# Altium schematic symbol library aiskylab-06IC-03Interface.SchLib: 21 symbols
Pins are listed as number, name and electrical type; pins without a type are passive.

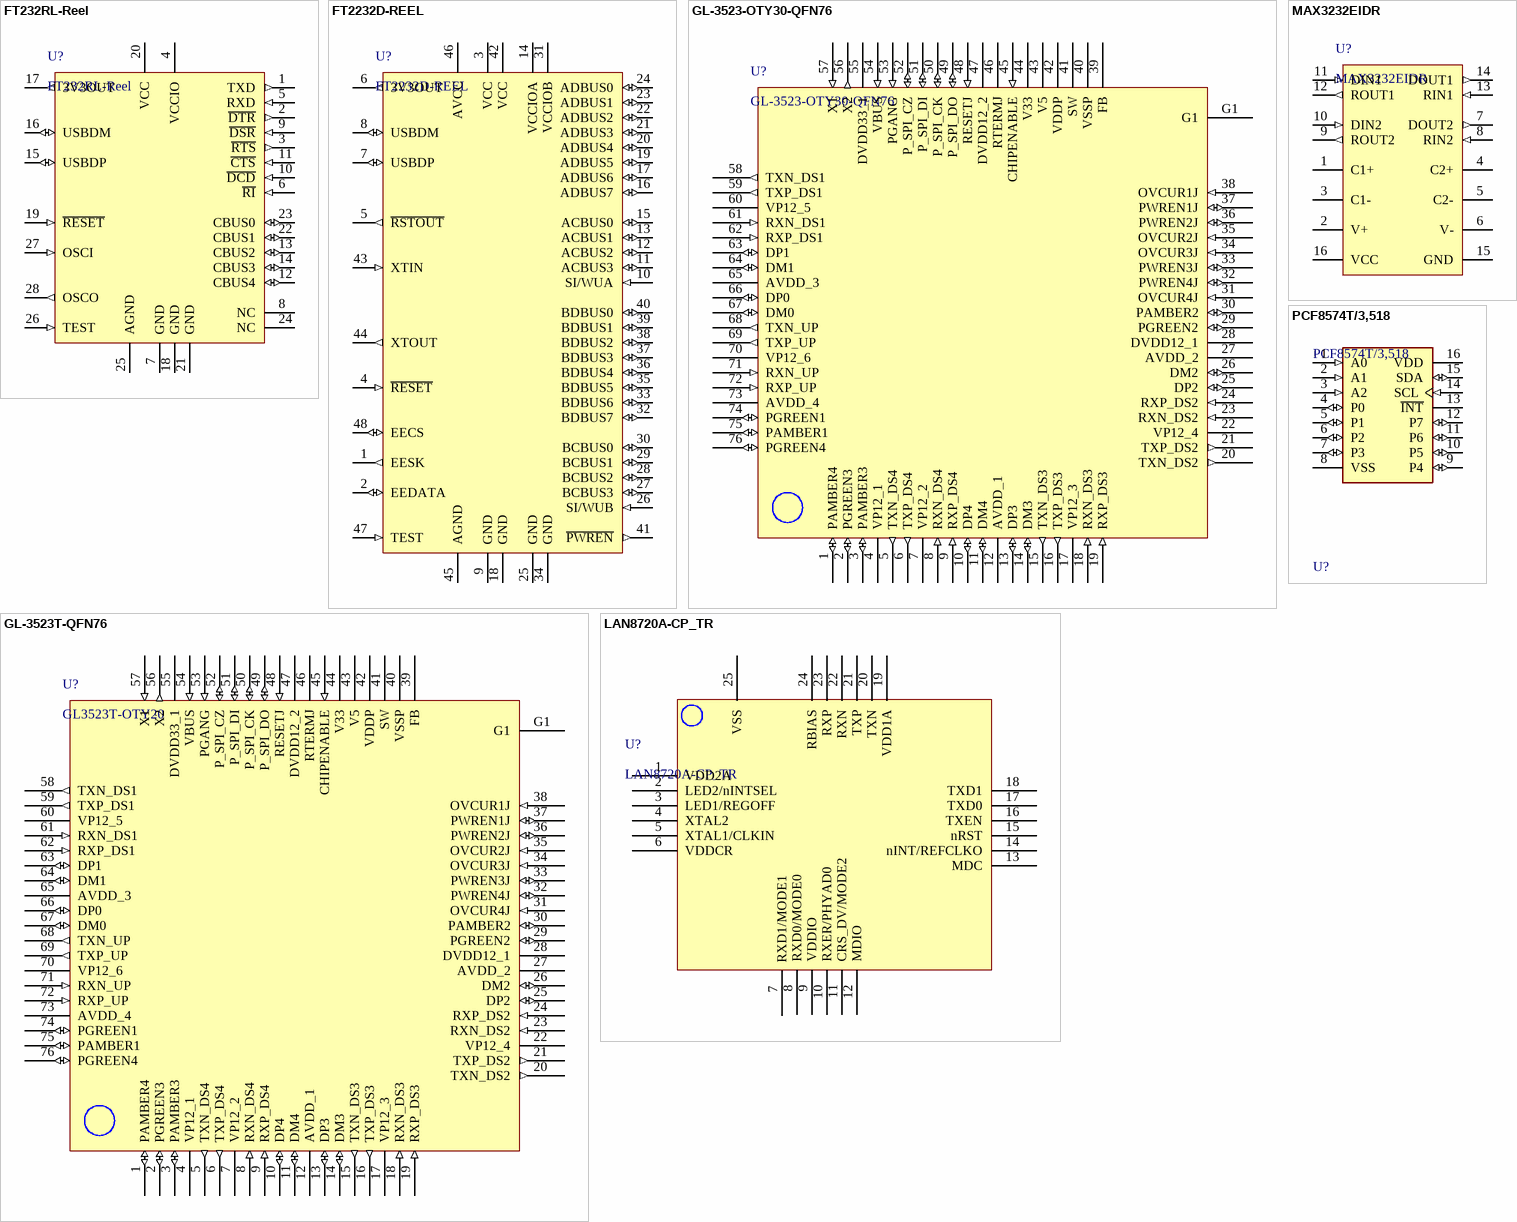
[diagram p0: symbols FT232RL-Reel to PCF8574T/3,518]

## FT232RL-Reel
designator U?
USB UART Asynchronous Serial Data Transfer Chip, 28-pin SSOP, Tape and Reel; Manufacturer: FTDI; PackageVersion: Mar-12; PackageReference: SSOP-28; ComponentLink2Description: Datasheet; DatasheetVersion: ver 2.10, Mar-2012; PackageDescription: 28-Pin Small Outline Package 0.65 mm Pitch; ComponentLink1Description: Manufacturer URL; RevisionNote: DatasheetVersion updated to 2.10 Mar-2012; PartNumber: FT232RL-Reel; ComponentLink1URL: http://www.ftdichip.com/; ComponentLink2URL: http://www.ftdichip.com/Support/Documents/DataSheets/ICs/DS_FT232R.pdf
footprint SSOP-28_L (SOP, 28-Leads, Body 10.2x5.3mm, Pitch 0.65mm, IPC High Density)
footprint SSOP-28_N (SOP, 28-Leads, Body 10.2x5.3mm, Pitch 0.65mm, IPC Medium Density)
footprint SSOP-28_M (SOP, 28-Leads, Body 10.2x5.3mm, Pitch 0.65mm, IPC Low Density)
pins: 1 TXD (out), 2 ~{DTR} (out), 3 ~{RTS} (out), 4 VCCIO (power), 5 RXD (in), 6 ~{RI} (in), 7 GND (power), 8 NC, 9 ~{DSR} (in), 10 ~{DCD} (in), 11 ~{CTS} (in), 12 CBUS4 (io), 13 CBUS2 (io), 14 CBUS3 (io), 15 USBDP (io), 16 USBDM (io), 17 3V3OUT (out), 18 GND (power), 19 ~{RESET} (in), 20 VCC (power), 21 GND (power), 22 CBUS1 (io), 23 CBUS0 (io), 24 NC, 25 AGND (power), 26 TEST (in), 27 OSCI (in), 28 OSCO (out)

## FT2232D-REEL
designator U?
FT2232D Dual USB to Serial UART/FIFO IC, -40 to +85 degC, 48-Pin LQFP, Pb-Free, Tape and Reel; Manufacturer: FTDI; ComponentLink1Description: Manufacturer URL; ComponentLink1URL: http://www.ftdichip.com/; PackageDescription: 48-Pin Thin Quad Flat Pack, 7 x 7 mm Body, 0.5 mm Pitch; PackageVersion: Apr-11; PartNumber: FT2232D-REEL; ComponentLink2URL: http://www.ftdichip.com/Support/Documents/DataSheets/ICs/DS_FT2232D.pdf; ComponentLink2Description: Datasheet; PackageReference: LQFP-48; DatasheetVersion: ver 2.05, Apr-2011
footprint LQFP-48_L (Thin QFP, 48-Leads, Body 7x7mm, Pitch 0.5mm, IPC High Density)
footprint LQFP-48_N (Thin QFP, 48-Leads, Body 7x7mm, Pitch 0.5mm, IPC Medium Density)
footprint LQFP-48_M (Thin QFP, 48-Leads, Body 7x7mm, Pitch 0.5mm, IPC Low Density)
pins: 1 EESK (out), 2 EEDATA (io), 3 VCC (power), 4 ~{RESET} (in), 5 ~{RSTOUT} (out), 6 3V3OUT (out), 7 USBDP (io), 8 USBDM (io), 9 GND (power), 10 SI/WUA (in), 11 ACBUS3 (io), 12 ACBUS2 (io), 13 ACBUS1 (io), 14 VCCIOA (power), 15 ACBUS0 (io), 16 ADBUS7 (io), 17 ADBUS6 (io), 18 GND (power), 19 ADBUS5 (io), 20 ADBUS4 (io), 21 ADBUS3 (io), 22 ADBUS2 (io), 23 ADBUS1 (io), 24 ADBUS0 (io), 25 GND (power), 26 SI/WUB (in), 27 BCBUS3 (io), 28 BCBUS2 (io), 29 BCBUS1 (io), 30 BCBUS0 (io), 31 VCCIOB (power), 32 BDBUS7 (io), 33 BDBUS6 (io), 34 GND (power), 35 BDBUS5 (io), 36 BDBUS4 (io), 37 BDBUS3 (io), 38 BDBUS2 (io), 39 BDBUS1 (io), 40 BDBUS0 (io), 41 ~{PWREN} (out), 42 VCC (power), 43 XTIN (in), 44 XTOUT (out), 45 AGND (power), 46 AVCC (power), 47 TEST (in), 48 EECS (io)

## GL-3523-OTY30-QFN76
designator U?
GL3523T-OTY30  Green Package
footprint QFN40P900X900X80_HS-77N (QFN, 76-Leads, Body 9.00x9.00mm, Pitch 0.40mm, Thermal Pad 5.75x5.75mm, IPC Medium Density)
pins: 1 PAMBER4 (io), 2 PGREEN3 (io), 3 PAMBER3 (io), 4 VP12_1 (power), 5 TXN_DS4 (out), 6 TXP_DS4 (out), 7 VP12_2 (power), 8 RXN_DS4 (in), 9 RXP_DS4 (in), 10 DP4 (io), 11 DM4 (io), 12 AVDD_1 (power), 13 DP3 (io), 14 DM3 (io), 15 TXN_DS3 (out), 16 TXP_DS3 (out), 17 VP12_3 (power), 18 RXN_DS3 (in), 19 RXP_DS3 (in), 20 TXN_DS2 (out), 21 TXP_DS2 (out), 22 VP12_4 (power), 23 RXN_DS2 (in), 24 RXP_DS2 (in), 25 DP2 (io), 26 DM2 (io), 27 AVDD_2 (power), 28 DVDD12_1 (power), 29 PGREEN2 (io), 30 PAMBER2 (io), 31 OVCUR4J (in), 32 PWREN4J (io), 33 PWREN3J (io), 34 OVCUR3J (in), 35 OVCUR2J (in), 36 PWREN2J (io), 37 PWREN1J (io), 38 OVCUR1J (in), 39 FB, 40 VSSP (power), 41 SW, 42 VDDP (power), 43 V5 (power), 44 V33 (power), 45 CHIPENABLE (in), 46 RTERMJ, 47 DVDD12_2 (power), 48 RESETJ (in), 49 P_SPI_DO (io), 50 P_SPI_CK (io), 51 P_SPI_DI (io), 52 P_SPI_CZ (io), 53 PGANG (in), 54 VBUS (in), 55 DVDD33_1 (power), 56 X2 (out), 57 X1 (in), 58 TXN_DS1 (out), 59 TXP_DS1 (out), 60 VP12_5 (power), 61 RXN_DS1 (in), 62 RXP_DS1 (in), 63 DP1 (io), 64 DM1 (io), 65 AVDD_3 (power), 66 DP0 (io), 67 DM0 (io), 68 TXN_UP (out), 69 TXP_UP (out), 70 VP12_6 (power), 71 RXN_UP (in), 72 RXP_UP (in), 73 AVDD_4 (power), 74 PGREEN1 (io), 75 PAMBER1 (io), 76 PGREEN4 (io), G1

## GL-3523T-QFN76
designator U?, comment GL3523T-OTY20
GL3523T-OTY20  Green Package  Versiont 20
footprint QFN40P900X900X80_HS-77N (QFN, 76-Leads, Body 9.00x9.00mm, Pitch 0.40mm, Thermal Pad 5.75x5.75mm, IPC Medium Density)
pins: 1 PAMBER4 (io), 2 PGREEN3 (io), 3 PAMBER3 (io), 4 VP12_1 (power), 5 TXN_DS4 (out), 6 TXP_DS4 (out), 7 VP12_2 (power), 8 RXN_DS4 (in), 9 RXP_DS4 (in), 10 DP4 (io), 11 DM4 (io), 12 AVDD_1 (power), 13 DP3 (io), 14 DM3 (io), 15 TXN_DS3 (out), 16 TXP_DS3 (out), 17 VP12_3 (power), 18 RXN_DS3 (in), 19 RXP_DS3 (in), 20 TXN_DS2 (out), 21 TXP_DS2 (out), 22 VP12_4 (power), 23 RXN_DS2 (in), 24 RXP_DS2 (in), 25 DP2 (io), 26 DM2 (io), 27 AVDD_2 (power), 28 DVDD12_1 (power), 29 PGREEN2 (io), 30 PAMBER2 (io), 31 OVCUR4J (in), 32 PWREN4J (io), 33 PWREN3J (io), 34 OVCUR3J (in), 35 OVCUR2J (in), 36 PWREN2J (io), 37 PWREN1J (io), 38 OVCUR1J (in), 39 FB, 40 VSSP (power), 41 SW, 42 VDDP (power), 43 V5 (power), 44 V33 (power), 45 CHIPENABLE (in), 46 RTERMJ, 47 DVDD12_2 (power), 48 RESETJ (in), 49 P_SPI_DO (io), 50 P_SPI_CK (io), 51 P_SPI_DI (io), 52 P_SPI_CZ (io), 53 PGANG (in), 54 VBUS (in), 55 DVDD33_1 (power), 56 X2 (out), 57 X1 (in), 58 TXN_DS1 (out), 59 TXP_DS1 (out), 60 VP12_5 (power), 61 RXN_DS1 (in), 62 RXP_DS1 (in), 63 DP1 (io), 64 DM1 (io), 65 AVDD_3 (power), 66 DP0 (io), 67 DM0 (io), 68 TXN_UP (out), 69 TXP_UP (out), 70 VP12_6 (power), 71 RXN_UP (in), 72 RXP_UP (in), 73 AVDD_4 (power), 74 PGREEN1 (io), 75 PAMBER1 (io), 76 PGREEN4 (io), G1

## LAN8720A-CP_TR
designator U?
RMII 10/100M Ethernet
footprint QFN50P400X400X80_HS-25N (QFN, 24-Leads, Body 4.00x4.00mm, Pitch 0.50mm, Thermal Pad 2.70x2.70mm, IPC Medium Density)
pins: 1 VDD2A, 2 LED2/nINTSEL, 3 LED1/REGOFF, 4 XTAL2, 5 XTAL1/CLKIN, 6 VDDCR, 7 RXD1/MODE1, 8 RXD0/MODE0, 9 VDDIO, 10 RXER/PHYAD0, 11 CRS_DV/MODE2, 12 MDIO, 13 MDC, 14 nINT/REFCLKO, 15 nRST, 16 TXEN, 17 TXD0, 18 TXD1, 19 VDD1A, 20 TXN, 21 TXP, 22 RXN, 23 RXP, 24 RBIAS, 25 VSS

## MAX3232EIDR
designator U?
3-V to 5.5-V Multichannel RS-232 Line Driver / Receiver with ±15-kV IEC ESD Protection, -40 to 85 degC, 16-Pin SOIC (D), Green (RoHS & no Sb/Br); Drivers Per Package: 2; IEC-61000-4-2 SUPPORT: TRUE; Supply Voltage(s)(V): 3.3 or 5.0; ICC(Max)(mA): 1; ESD HBM(kV): +/-15; PackageVersion: revM, Jun-2011; ComponentLink2URL: http://www.ti.com/general/docs/lit/getliterature.tsp?genericPartNumber=MAX3232E&fileType=pdf; PackageReference: D0016A; DatasheetVersion: SLLS664A; ComponentLink3Description: Package Specification; PackageDescription: 16-Pin Plastic Small Outline Integrated Circuit, 9.9 x 3.9 mm, Pitch 1.27 mm Pitch; SubFamily: RS-232; Single Supply: TRUE; RS-232: TRUE; ComponentLink1Description: Manufacturer URL; ComponentLink1URL: www.ti.com; ComponentLink3URL: http://www.ti.com/litv/pdf/mpds178g; Receivers Per Package: 2; ComponentLink2Description: Datasheet
footprint D0016A_N (SOIC, 16-Leads, Body 10x4mm, Pitch 1.27mm, IPC Medium Density)
footprint D0016A_L (SOIC, 16-Leads, Body 10x4mm, Pitch 1.27mm, IPC High Density)
footprint D0016A_M (SOIC, 16-Leads, Body 10x4mm, Pitch 1.27mm, IPC Low Density)
pins: 1 C1+, 2 V+ (power), 3 C1-, 4 C2+, 5 C2-, 6 V- (power), 7 DOUT2 (out), 8 RIN2 (in), 9 ROUT2 (out), 10 DIN2 (in), 11 DIN1 (in), 12 ROUT1 (out), 13 RIN1 (in), 14 DOUT1 (out), 15 GND (power), 16 VCC (power)

## PCF8574T/3,518
designator U?
IC I/O EXPANDER I2C 8B 16SOIC; Manufacturer: NXP Semiconductors; Frequency: 100kHz; Max Supply Voltage: 6V; Standoff Height: 0.1mm; Nominal Supply Current: 40uA; Max Junction Temp: +125°C; Min Supply Voltage: 2.5V; Number Of I/Os: 8; Manufacturer Part Number: PCF8574T/3,518; Footprint Url: https://www.nxp.com/docs/en/package-information/SOT162-1.pdf; ComponentLink2URL: https://www.nxp.com/docs/en/data-sheet/PCF8574_PCF8574A.pdf; Automotive: No; Digikey Description: IC I/O EXPANDER I2C 8B 16SOIC; Mouser Description: PCF8574 Series 2.5 - 6V Remote 8-bit I/O Expander for I2C-bus - SOIC-16; Ipc Land Pattern Name: SOIC127P1032X265-16; Interface: I2C; Octopart: https://octopart.com/pcf8574t%2F3%2C518-nxp+semiconductors-10470852; Ambient Temperature Range Low: -40°C; Lead Free: Yes; Device Class L2: Interface ICs; Temperature Range High: +85°C; Device Class L1: Integrated Circuits (ICs); Package: SOT162-1; ComponentLink2Description: Datasheet; Device Class L3: I/O Expanders; Temperature: -40°C to +85°C; Ambient Temperature Range High: +85°C; Height: 2.65mm; Category: IC; RoHS: TRUE; Temperature Range Low: -40°C
footprint FP-SOT162-1-MFG
footprint FP-SOT162-1-IPC_C
footprint FP-SOT162-1-IPC_B
footprint FP-SOT162-1-IPC_A
pins: 1 A0 (in), 2 A1 (in), 3 A2 (in), 4 P0 (io), 5 P1 (io), 6 P2 (io), 7 P3 (io), 8 VSS (power), 9 P4 (io), 10 P5 (io), 11 P6 (io), 12 P7 (io), 13 ~{INT} (oc), 14 SCL (in), 15 SDA (io), 16 VDD (power)

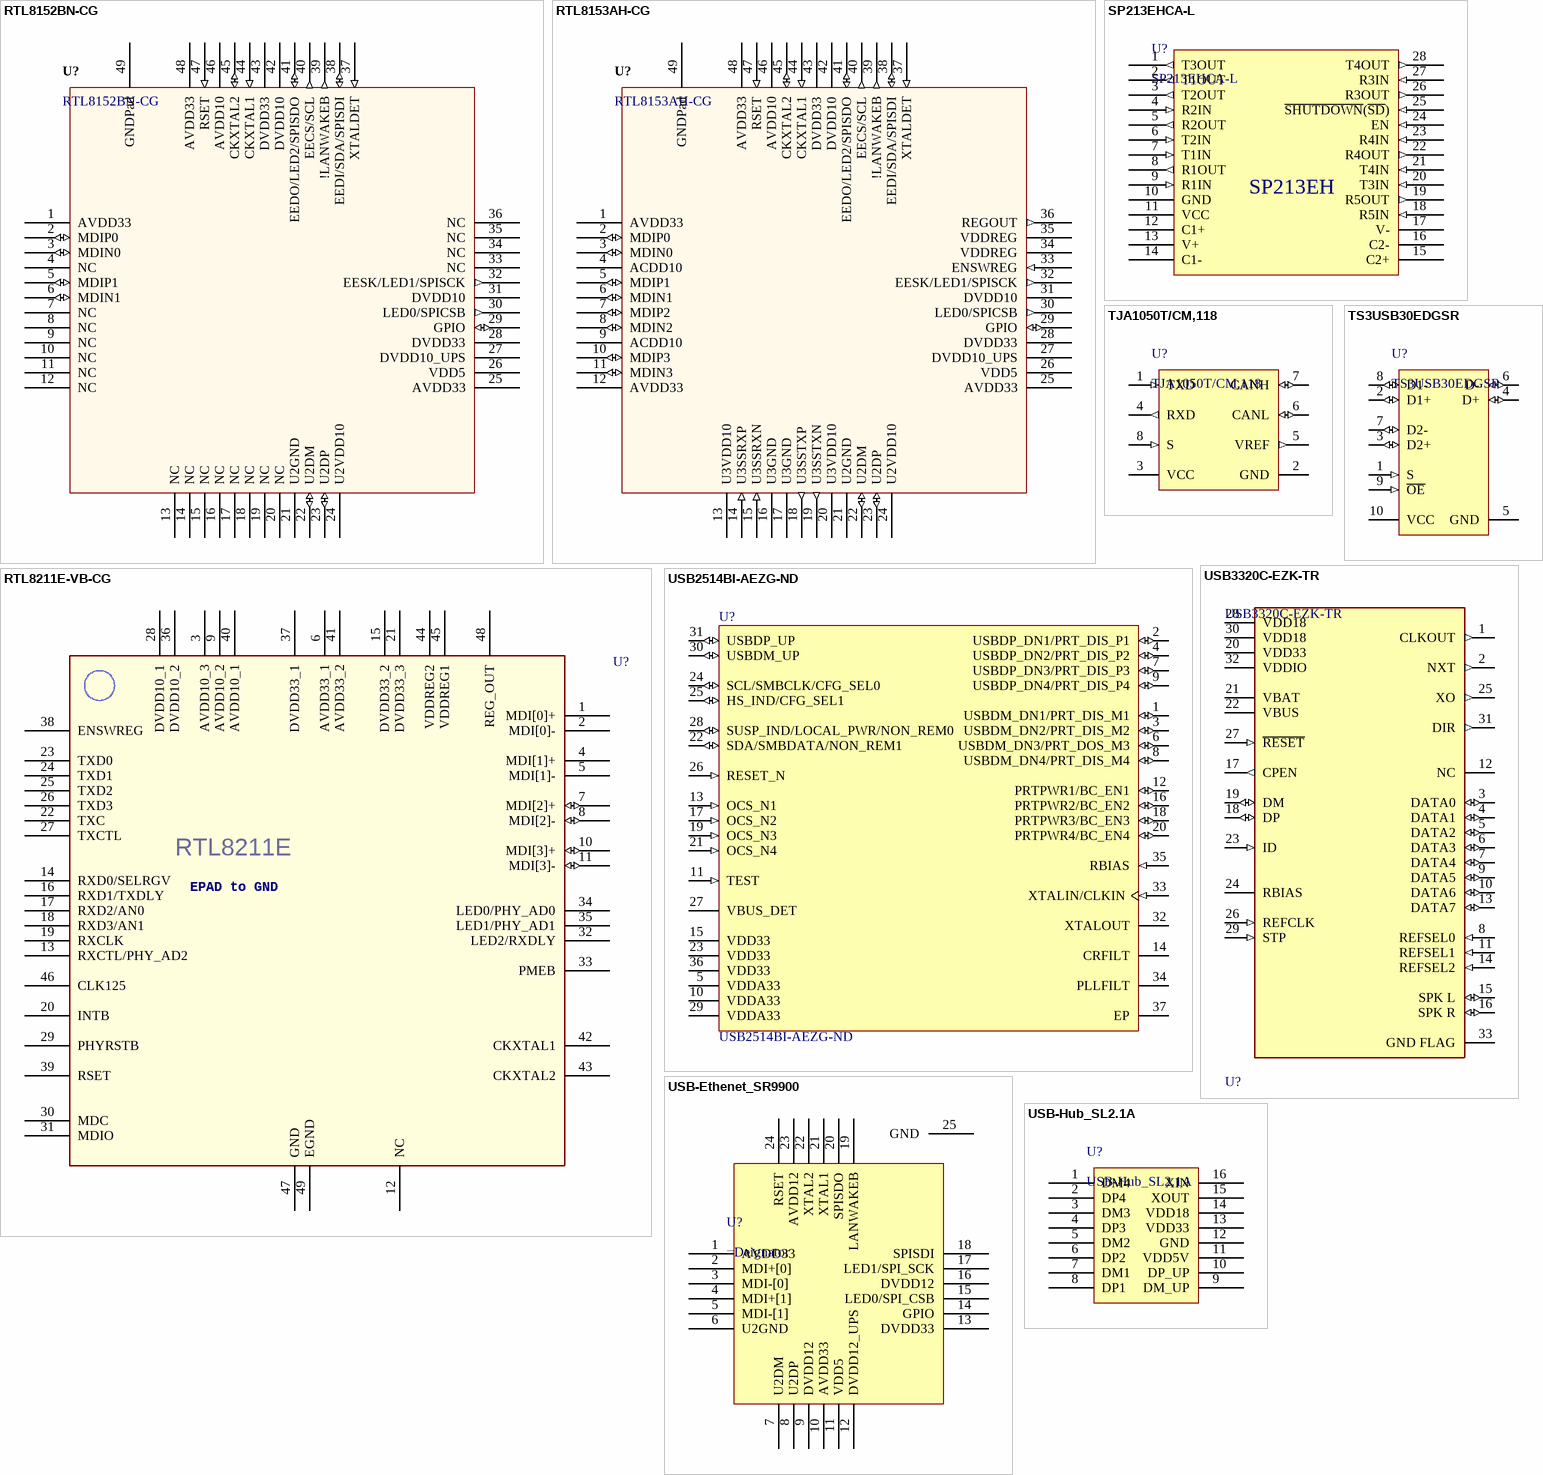
[diagram p1: symbols RTL8152BN-CG to USB-Hub_SL2.1A]

## RTL8152BN-CG
designator U?
通信-USB转网口
footprint QFN40P600X600X100_HS-49N (QFN, 48-Leads, Body 6.00x6.00mm, Pitch 0.40mm, Thermal Pad 4.40x4.40mm, IPC Medium Density)
pins: 1 AVDD33 (power), 2 MDIP0 (io), 3 MDIN0 (io), 4 NC, 5 MDIP1 (io), 6 MDIN1 (io), 7 NC, 8 NC, 9 NC (power), 10 NC, 11 NC, 12 NC (power), 13 NC (power), 14 NC, 15 NC, 16 NC (power), 17 NC (power), 18 NC, 19 NC, 20 NC (power), 21 U2GND (power), 22 U2DM (io), 23 U2DP (io), 24 U2VDD10 (power), 25 AVDD33 (power) "LDO 3.3 Output", 26 VDD5 (power), 27 DVDD10_UPS (power) "LDO 1.2V Output", 28 DVDD33 (power), 29 GPIO (io), 30 LED0/SPICSB (out), 31 DVDD10 (power), 32 EESK/LED1/SPISCK (out), 33 NC, 34 NC (power), 35 NC (power), 36 NC, 37 XTALDET (in), 38 EEDI/SDA/SPISDI (io), 39 !LANWAKEB (out), 40 EECS/SCL (out), 41 EEDO/LED2/SPISDO (io), 42 DVDD10 (power), 43 DVDD33 (power), 44 CKXTAL1 (in), 45 CKXTAL2 (io), 46 AVDD10 (power), 47 RSET (in), 48 AVDD33 (power), 49 GNDPad

## RTL8153AH-CG
designator U?
通信-USB转网口
footprint QFN40P600X600X100_HS-49N (QFN, 48-Leads, Body 6.00x6.00mm, Pitch 0.40mm, Thermal Pad 4.40x4.40mm, IPC Medium Density)
pins: 1 AVDD33 (power), 2 MDIP0 (io), 3 MDIN0 (io), 4 ACDD10 (power), 5 MDIP1 (io), 6 MDIN1 (io), 7 MDIP2 (io), 8 MDIN2 (io), 9 ACDD10 (power), 10 MDIP3 (io), 11 MDIN3 (io), 12 AVDD33 (power), 13 U3VDD10 (power), 14 U3SSRXP (in), 15 U3SSRXN (in), 16 U3GND (power), 17 U3GND (power), 18 U3SSTXP (out), 19 U3SSTXN (out), 20 U3VDD10 (power), 21 U2GND (power), 22 U2DM (io), 23 U2DP (io), 24 U2VDD10 (power), 25 AVDD33 (power) "LDO 3.3 Output", 26 VDD5 (power), 27 DVDD10_UPS (power) "LDO 1.2V Output", 28 DVDD33 (power), 29 GPIO (io), 30 LED0/SPICSB (out), 31 DVDD10 (power), 32 EESK/LED1/SPISCK (out), 33 ENSWREG (in), 34 VDDREG (power), 35 VDDREG (power), 36 REGOUT (out), 37 XTALDET (in), 38 EEDI/SDA/SPISDI (io), 39 !LANWAKEB (out), 40 EECS/SCL (out), 41 EEDO/LED2/SPISDO (io), 42 DVDD10 (power), 43 DVDD33 (power), 44 CKXTAL1 (in), 45 CKXTAL2 (io), 46 AVDD10 (power), 47 RSET (in), 48 AVDD33 (power), 49 GNDPad

## RTL8211E-VB-CG
designator U?  (value not drawn)
10/100/1000M网口芯片; ComponentLink1Description: New link; ComponentLink1URL: https://atta.szlcsc.com/upload/public/pdf/source/20171225/C90735_15141884815701203317.pdf
footprint QFN40P600X600X85_HS-49N (QFN, 48-Leads, Body 6.00x6.00mm, Pitch 0.40mm, Thermal Pad 4.40x4.40mm, IPC Medium Density)
pins: 1 MDI[0]+, 2 MDI[0]-, 3 AVDD10_3 (power), 4 MDI[1]+, 5 MDI[1]-, 6 AVDD33_1 (power), 7 MDI[2]+ (io), 8 MDI[2]- (io), 9 AVDD10_2 (power), 10 MDI[3]+ (io), 11 MDI[3]- (io), 12 NC, 13 RXCTL/PHY_AD2, 14 RXD0/SELRGV, 15 DVDD33_2 (power), 16 RXD1/TXDLY, 17 RXD2/AN0, 18 RXD3/AN1, 19 RXCLK, 20 INTB, 21 DVDD33_3 (power), 22 TXC, 23 TXD0, 24 TXD1, 25 TXD2 (power), 26 TXD3, 27 TXCTL, 28 DVDD10_1 (power), 29 PHYRSTB, 30 MDC, 31 MDIO, 32 LED2/RXDLY, 33 PMEB, 34 LED0/PHY_AD0, 35 LED1/PHY_AD1, 36 DVDD10_2 (power), 37 DVDD33_1 (power), 38 ENSWREG, 39 RSET, 40 AVDD10_1, 41 AVDD33_2, 42 CKXTAL1, 43 CKXTAL2, 44 VDDREG2, 45 VDDREG1, 46 CLK125, 47 GND (power), 48 REG_OUT (power), 49 EGND (power)
text: EPAD to GND

## SP213EHCA-L
designator U?
全功能TTL-232接口芯片; Manufacturer: Exar; Max Supply Voltage: 5.5V; Min Supply Voltage: 4.5V; Interface: RS-232; Number of I/Os: 18; Operating Supply Voltage: 5V; Number of Transceivers: 1; Data Rate: 500Kbps; Number of Receivers: 5; Number of Transmitters: 4; Nominal Supply Current: 6mA; Logic Function: Transceiver; Propagation Delay: 0.2us; Power Dissipation: 900mW; Supplier 1: Farnell; Manufacturer Part Number: SP213EHCA-L; RoHS: Yes; Category: Interface ICs; Pricing 1: 1=1.00000, 25=0.97300, 50=0.94700, 100=0.92000, 250=0.89300, 500=0.78100, 1000=0.57100, 2500=0.56300 (GBP); Mount: Surface Mount; Case/Package: SSOP; Number of Pins: 28; Min Operating Temperature: 0°C; Max Operating Temperature: 70°C; Packaging: Rail/Tube; Package Quantity: 46; Number of Drivers: 4; Length: 10.5mm; Height: 1.85mm; Width: 5.6mm; Radiation Hardening: No; Lead Free: Lead Free; REACH SVHC: Unknown; ComponentLink1URL: https://datasheet.ciiva.com/1700/sp211eh-213eh-101-060111-1700128.pdf?src-supplier=Digi-Key; ComponentLink1Description: https://datasheet.ciiva.com/1700/sp211eh-213eh-101-060111-1700128.pdf?src-supplier=Digi-Key; ComponentLink2URL: https://datasheet.ciiva.com/22828/0900766b81141d3f-22828222.pdf?src-supplier=RSComponents; ComponentLink2Description: https://datasheet.ciiva.com/22828/0900766b81141d3f-22828222.pdf?src-supplier=RSComponents; ComponentLink3URL: https://datasheet.ciiva.com/16488/sp213e-series-16488425.pdf?src-supplier=Future+Electronics; ComponentLink3Description: https://datasheet.ciiva.com/16488/sp213e-series-16488425.pdf?src-supplier=Future+Electronics; Supplier Part Number 1: 9386467
footprint SSOP-28_L (SOP, 28-Leads, Body 10.2x5.3mm, Pitch 0.65mm, IPC High Density)
footprint SSOP-28_M (SOP, 28-Leads, Body 10.2x5.3mm, Pitch 0.65mm, IPC Low Density)
footprint SSOP-28_N (SOP, 28-Leads, Body 10.2x5.3mm, Pitch 0.65mm, IPC Medium Density)
pins: 1 T3OUT (out), 2 T1OUT (out), 3 T2OUT (out), 4 R2IN (in), 5 R2OUT (out), 6 T2IN (in), 7 T1IN (in), 8 R1OUT (out), 9 R1IN (in), 10 GND (power), 11 VCC (power), 12 C1+, 13 V+, 14 C1-, 15 C2+, 16 C2-, 17 V-, 18 R5IN (in), 19 R5OUT (out), 20 T3IN (in), 21 T4IN (in), 22 R4OUT (out), 23 R4IN (in), 24 EN (in), 25 ~{SHUTDOWN}(~{SD}) (in), 26 R3OUT (out), 27 R3IN (in), 28 T4OUT (out)
text: SP213EH

## TJA1050T/CM,118
designator U?
CAN收发器; Manufacturer: NXP Semiconductors; Duplex: Half; Number of Drivers/Receivers: 1/1; Product Training Modules: CANandLINBusTransceiver; Protocol: CAN; Receiver Hysteresis: 70mV; Minimum Quantity: Transceiver; Voltage - Supply: 4.75V~5.25V; Dynamic Catalog: CANTransceivers; Other Names: 568-10292-1; PCN Packaging: LighterPackingReels30/Mar/2014; PCN Obsolescence: TJA105028/Apr/2013 / MultipleDevices19/Apr/2013; Standard Package: 1; Family: Interface-Drivers,Receivers,Transceivers; Package Reference: SOT96-1; Mounting Type: SurfaceMount; Package / Case: 8-SOIC(0.154",3.90mmWidth); Package Description: 8-Pin Small Outline Integrated Circuit, Body 4.9 x 3.9 mm, Pitch 1.27 mm; Package/Case: 8-SOIC(0.154",3.90mmWidth); Supplier Device Package: 8-SO; <PCN>: http://media.digikey.com/pdf/PCNs/NXP/201209019F04_TJA1050_Obs.pdf; Datasheet URL: http://www.nxp.com/documents/data_sheet/TJA1050.pdf; Category: IntegratedCircuits(ICs); Quantity Available: CutTape(CT)AlternatePackaging; Datasheet Version: Rev. 4, 10/2003; Type: Transceiver; Packaging: CutTape(CT); Manufacturer URL: http://www.nxp.com/; ComponentLink1Description: Datasheet; ComponentLink1URL: http://www.nxp.com/documents/data_sheet/TJA1050.pdf
footprint NXP-SOT96-1_N (SOIC, 8-Leads, Body 5x4mm, Pitch 1.27mm, IPC Medium Density)
footprint NXP-SOT96-1_L (SOIC, 8-Leads, Body 5x4mm, Pitch 1.27mm, IPC High Density)
footprint NXP-SOT96-1_M (SOIC, 8-Leads, Body 5x4mm, Pitch 1.27mm, IPC Low Density)
pins: 1 TXD (in), 2 GND (power), 3 VCC (power), 4 RXD (out), 5 VREF (out), 6 CANL (io), 7 CANH (io), 8 S (in)

## TS3USB30EDGSR
designator U?
USB2.0Hub; Manufacturer: Texas Instruments; Architecture: "1","2 mux/demux"; Vcc range(V): 3.0 to 4.3; tpd max(ns): 0.25; ICC(uA): 1; Eco-Plan: Green (RoHS & no Sb/Br); IL OFF(Max)(nA): 2; OFF Time(Max)(ns): 30; SubFamily: USB Switch; ESD HBM(kV): +/-8; Bandwidth(MHz): 900; RON Mis-match(Max)(Ohms): 0.35; ON Time(Max)(ns): 25; ron(max)(ohms): 10; PartNumber: TS3USB30EDGSR; ComponentLink1URL: http://www.ti.com/general/docs/lit/getliterature.tsp?genericPartNumber=TS3USB30E&fileType=pdf; PackageReference: DGS0010A; Code_JEDEC: MO-187-BA; PackageDescription: 10-Pin Thin Shrink Small Outline Package 0.5 mm Pitch; ComponentLink2URL: http://www.ti.com/litv/pdf/mpds035b; Number of Channels: 2; Mounting Technology: Surface Mount; PackageVersion: revC, Feb-2004; DatasheetVersion: SCDS255D; ComponentLink1Description: Datasheet; ComponentLink2Description: Package Specification; RON Flatness(Max)(Ohms): 2
footprint DGS0010A_N (SOP, 10-Leads, Body 3.1x3.1mm, Pitch 0.5mm, IPC Medium Density)
footprint DGS0010A_M (SOP, 10-Leads, Body 3.1x3.1mm, Pitch 0.5mm, IPC Low Density)
footprint DGS0010A_L (SOP, 10-Leads, Body 3.1x3.1mm, Pitch 0.5mm, IPC High Density)
pins: 1 S (in) "Select input", 2 D1+ (io) "Data ports", 3 D2+ (io) "Data ports", 4 D+ (io) "Data ports", 5 GND (power), 6 D- (io) "Data ports", 7 D2- (io) "Data ports", 8 D1- (io) "Data ports", 9 ~{OE} (in) "Bus-switch enable", 10 VCC (power) "Power supply"

## USB2514BI-AEZG-ND
designator U?
USB2.0Hub; Manufacturer: Microchip; Operating Supply Voltage: 3.3V; Data Rate: 480Mbps; Interface: USB; Min Supply Voltage: 3V; Max Supply Voltage: 3.6V; Operating Supply Current: 85mA; Number of Ports: 4; Number of Transceivers: 1; ESD Protection: Yes; Supplier 1: Digi-Key; Manufacturer Part Number: USB2514BI-AEZG; Stock 1: 2894; Pricing 1: 1=3.36000, 25=2.80160, 100=2.58910 (USD); RoHS: Yes; Mount: Surface Mount; Case/Package: QFN; Number of Pins: 36; Contact Plating: Tin,Matte; Min Operating Temperature: -40°C; Max Operating Temperature: 85°C; Packaging: Rail/Tube; Package Quantity: 490; Length: 6.15mm; Height: 0.95mm; Width: 6.15mm; Radiation Hardening: No; Lead Free: Lead Free; REACH SVHC: No SVHC; ComponentLink1URL: https://datasheet.ciiva.com/22650/1691496-22650784.pdf?src-supplier=Element14; ComponentLink1Description: datasheet
footprint QFN50P600X600X90_HS-37N (QFN, 36-Leads, Body 6.00x6.00mm, Pitch 0.50mm, Thermal Pad 3.70x3.70mm, IPC Medium Density)
pins: 1 USBDM_DN1/PRT_DIS_M1 (io), 2 USBDP_DN1/PRT_DIS_P1 (io), 3 USBDM_DN2/PRT_DIS_M2 (io), 4 USBDP_DN2/PRT_DIS_P2 (io), 5 VDDA33 (power) "3.3 V Power", 6 USBDM_DN3/PRT_DOS_M3 (io), 7 USBDP_DN3/PRT_DIS_P3 (io), 8 USBDM_DN4/PRT_DIS_M4 (io), 9 USBDP_DN4/PRT_DIS_P4 (io), 10 VDDA33 (power) "3.3 V Power", 11 TEST (in) "Test Pin: treat as a no connect pin or connect to ground. No trace or signal should be routed or attached to this pin.", 12 PRTPWR1/BC_EN1 (io), 13 OCS_N1 (in) "Over-Current Sense: input from external current monitor indicating an overcurrent condition.", 14 CRFILT "VDD Core Regulator Filter Capacitor: this pin can have up to a 0.1 uF low-ESR capacitor to VSS, or be left unconnected.", 15 VDD33 (power) "3.3 V Power", 16 PRTPWR2/BC_EN2 (io), 17 OCS_N2 (in) "Over-Current Sense: input from external current monitor indicating an overcurrent condition.", 18 PRTPWR3/BC_EN3 (io), 19 OCS_N3 (in) "Over-Current Sense: input from external current monitor indicating an overcurrent condition.", 20 PRTPWR4/BC_EN4 (io), 21 OCS_N4 (in) "Over-Current Sense: input from external current monitor indicating an overcurrent condition.", 22 SDA/SMBDATA/NON_REM1 (io), 23 VDD33 (power) "3.3 V Power", 24 SCL/SMBCLK/CFG_SEL0 (io), 25 HS_IND/CFG_SEL1 (io), 26 RESET_N (in) "RESET Input: the system can reset the chip by driving this input low. The minimum active low pulse is 1 us.", 27 VBUS_DET (power) "Detect Upstream VBUS Power: detects the state of the upstream VBUS power. The SMSC hub monitors VBUS_DET to determine when to assert the internal D+ pull-up resistor: (signaling a connect event). When designing a detachable (See Datasheet)", 28 SUSP_IND/LOCAL_PWR/NON_REM0 (io), 29 VDDA33 (power) "3.3 V Power", 30 USBDM_UP (io) "USB Data: connect to the upstream USB bus data signals (host, port, or upstream hub).", 31 USBDP_UP (io) "USB Data: connect to the upstream USB bus data signals (host, port, or upstream hub).", 32 XTALOUT "Crystal Output: this is the other terminal of the crystal circuit with 1.2 V p-p output and a weak (< 1mA) driving strength. When an external clock source is used to drive XTALIN/CLKIN, leave this pin unconnected, or use (See Datasheet)", 33 XTALIN/CLKIN (in), 34 PLLFILT "PLL Regulator Filter Capacitor: this pin can have up to a 0.1 uF low-ESR capacitor to VSS, or be left unconnected.", 35 RBIAS (in) "USB Transceiver Bias: a 12.0 kohm (+/- 1%) resistor is attached from ground to this pin to set the transceiver’s internal bias settings.", 36 VDD33 (power) "3.3 V Power", 37 EP (power) "Ground Pad/ePad: the package slug is the only VSS for the device and must be tied to ground with multiple vias."

## USB3320C-EZK-TR
designator U?
IC TRANSCEIVER HALF 1/1 32QFN; Manufacturer: Microchip; Min Supply Voltage: 1.6V; Usb Standard: USB 2.0; Max Supply Voltage: 5.5V; Nominal Supply Current: 0.7-29400uA; Number Of Ports: 1; Interface: UART,USB; Standoff Height: 0mm; Digikey Description: IC TRANSCEIVER HALF 1/1 32QFN; Category: IC; Mouser Description: Microchip USB3320C-EZK-TR, USB Transceiver, USB 2.0, 1.8 V, 3.3 V, 32-Pin QFN; Ipc Land Pattern Name: QFN50P500X500X85-32; ComponentLink2Description: Datasheet; Device Class L2: Interface ICs; Temperature Range Low: -40°C; Ambient Temperature Range Low: -40°C; ComponentLink2URL: http://ww1.microchip.com/downloads/en/DeviceDoc/00001792E.pdf; Device Class L3: USB Interface ICs; Lead Free: Yes; RoHS: TRUE; Height: 1mm; Temperature Range High: +85°C; Octopart: https://octopart.com/usb3320c-ezk-tr-microchip-24995468; Device Class L1: Integrated Circuits (ICs); Automotive: No; Temperature: -40°C to +85°C; Ambient Temperature Range High: +85°C; Package: 32QFN-3304-5X5B; Manufacturer Part Number: USB3320C-EZK-TR
footprint FP-32QFN-3304-5X5B-IPC_A
footprint FP-32QFN-3304-5X5B-IPC_B
footprint FP-32QFN-3304-5X5B-IPC_C
footprint FP-32QFN-3304-5X5B-MFG
pins: 1 CLKOUT (out), 2 NXT (out), 3 DATA0 (io), 4 DATA1 (io), 5 DATA2 (io), 6 DATA3 (io), 7 DATA4 (io), 8 REFSEL0 (in), 9 DATA5 (io), 10 DATA6 (io), 11 REFSEL1 (in), 12 NC, 13 DATA7 (io), 14 REFSEL2 (in), 15 SPK L (io), 16 SPK R (io), 17 CPEN (out), 18 DP (io), 19 DM (io), 20 VDD33 (power), 21 VBAT (power), 22 VBUS (power), 23 ID (in), 24 RBIAS (power), 25 XO (out), 26 REFCLK (in), 27 ~{RESET} (in), 28 VDD18 (power), 29 STP (in), 30 VDD18 (power), 31 DIR (out), 32 VDDIO (power), 33 GND FLAG (power)

## USB-Ethenet_SR9900
designator U?
USB2.0-100M Ethernet
footprint QFN50P400X400X80_HS-25N (QFN, 24-Leads, Body 4.00x4.00mm, Pitch 0.50mm, Thermal Pad 2.70x2.70mm, IPC Medium Density)
pins: 1 AVDD33, 2 MDI+[0], 3 MDI-[0], 4 MDI+[1], 5 MDI-[1], 6 U2GND, 7 U2DM, 8 U2DP, 9 DVDD12, 10 AVDD33, 11 VDD5, 12 DVDD12_UPS, 13 DVDD33, 14 GPIO, 15 LED0/SPI_CSB, 16 DVDD12, 17 LED1/SPI_SCK, 18 SPISDI, 19 LANWAKEB, 20 SPISDO, 21 XTAL1, 22 XTAL2, 23 AVDD12, 24 RSET, 25 GND

## USB-Hub_SL2.1A
designator U?
USB2.0Hub
footprint SOP16_150mil
pins: 1 DM4, 2 DP4, 3 DM3, 4 DP3, 5 DM2, 6 DP2, 7 DM1, 8 DP1, 9 DM_UP, 10 DP_UP, 11 VDD5V, 12 GND, 13 VDD33, 14 VDD18, 15 XOUT, 16 XIN

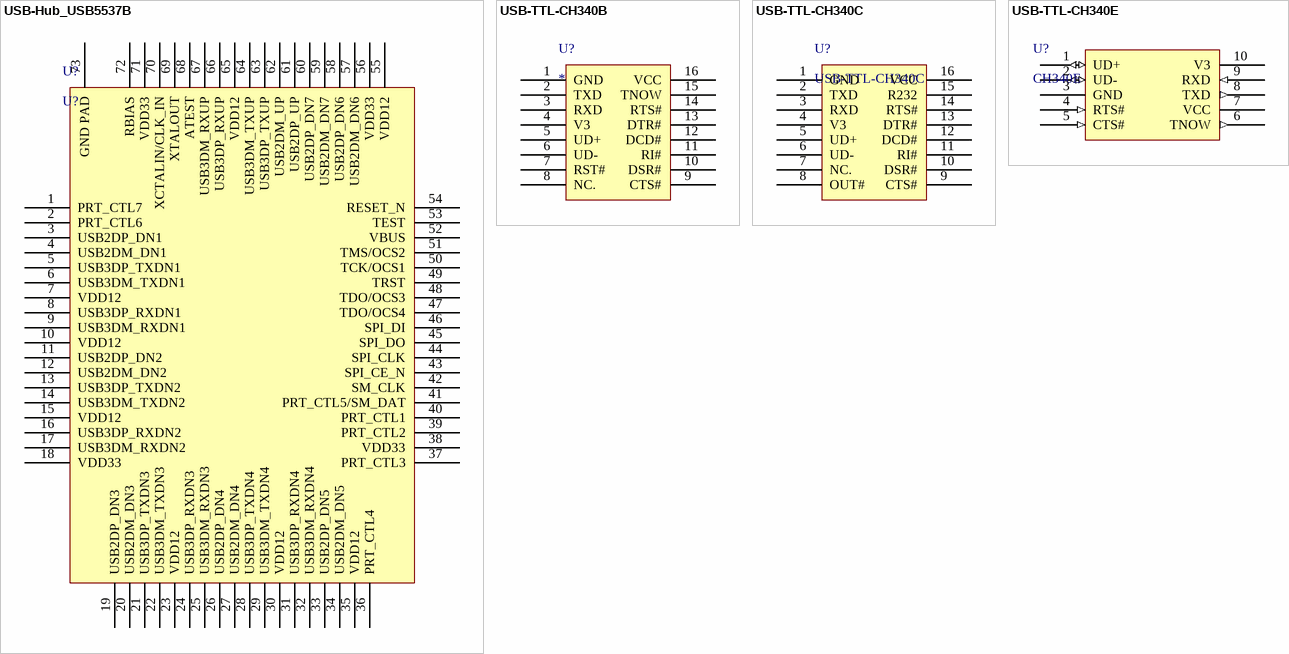
[diagram p2: symbols USB-Hub_USB5537B to USB-TTL-CH340E]

## USB-Hub_USB5537B
designator U?, comment U?
7-Port SS/HS USB Hub Controller
footprint QFN50P1000X1000X85_HS-73N (QFN, 72-Leads, Body 10.00x10.00mm, Pitch 0.50mm, Thermal Pad 6.00x6.00mm, IPC Medium Density)
pins: 1 PRT_CTL7, 2 PRT_CTL6, 3 USB2DP_DN1, 4 USB2DM_DN1, 5 USB3DP_TXDN1, 6 USB3DM_TXDN1, 7 VDD12, 8 USB3DP_RXDN1, 9 USB3DM_RXDN1, 10 VDD12, 11 USB2DP_DN2, 12 USB2DM_DN2, 13 USB3DP_TXDN2, 14 USB3DM_TXDN2, 15 VDD12, 16 USB3DP_RXDN2, 17 USB3DM_RXDN2, 18 VDD33, 19 USB2DP_DN3, 20 USB2DM_DN3, 21 USB3DP_TXDN3, 22 USB3DM_TXDN3, 23 VDD12, 24 USB3DP_RXDN3, 25 USB3DM_RXDN3, 26 USB2DP_DN4, 27 USB2DM_DN4, 28 USB3DP_TXDN4, 29 USB3DM_TXDN4, 30 VDD12, 31 USB3DP_RXDN4, 32 USB3DM_RXDN4, 33 USB2DP_DN5, 34 USB2DM_DN5, 35 VDD12, 36 PRT_CTL4, 37 PRT_CTL3, 38 VDD33, 39 PRT_CTL2, 40 PRT_CTL1, 41 PRT_CTL5/SM_DAT, 42 SM_CLK, 43 SPI_CE_N, 44 SPI_CLK, 45 SPI_DO, 46 SPI_DI, 47 TDO/OCS4, 48 TDO/OCS3, 49 TRST, 50 TCK/OCS1, 51 TMS/OCS2, 52 VBUS, 53 TEST, 54 RESET_N, 55 VDD12, 56 VDD33, 57 USB2DM_DN6, 58 USB2DP_DN6, 59 USB2DM_DN7, 60 USB2DP_DN7, 61 USB2DP_UP, 62 USB2DM_UP, 63 USB3DP_TXUP, 64 USB3DM_TXUP, 65 VDD12, 66 USB3DP_RXUP, 67 USB3DM_RXUP, 68 ATEST, 69 XTALOUT, 70 XCTALIN/CLK_IN, 71 VDD33, 72 RBIAS, 73 GND PAD

## USB-TTL-CH340B
designator U?
USB-TTL IC
footprint SOP16_150mil
pins: 1 GND, 2 TXD, 3 RXD, 4 V3, 5 UD+, 6 UD-, 7 RST#, 8 NC., 9 CTS#, 10 DSR#, 11 RI#, 12 DCD#, 13 DTR#, 14 RTS#, 15 TNOW, 16 VCC

## USB-TTL-CH340C
designator U?
USB-TTL IC
footprint SOP16_150mil
pins: 1 GND, 2 TXD, 3 RXD, 4 V3, 5 UD+, 6 UD-, 7 NC., 8 OUT#, 9 CTS#, 10 DSR#, 11 RI#, 12 DCD#, 13 DTR#, 14 RTS#, 15 R232, 16 VCC

## USB-TTL-CH340E
designator U?, comment CH340E
USB-TTL IC
footprint MSOP10
pins: 1 UD+ (io), 2 UD- (io), 3 GND (power), 4 RTS# (in), 5 CTS# (in), 6 TNOW (out), 7 VCC (power), 8 TXD (out), 9 RXD (in), 10 V3 (power)